# EAGLE library part SI7997DP (library transistor-fet)
Dual P-Channel 30 V (D-S) MOSFET
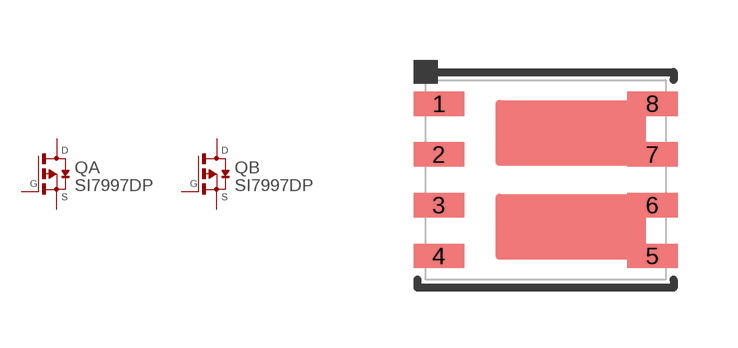
[diagram p22: symbol with the pads of POWERPAK-SO-08D; footprint POWERPAK-SO-08D]

Designator prefix Q; gates A=EMOS-PD B=EMOS-PD

## SI7997DP  [POWERPAK-SO-08D]
1  A:S  pas
2  A:G  pas
3  B:S  pas
4  B:G  pas
5  B:D  pas
6  B:D  pas
7  A:D  pas
8  A:D  pas

## Footprint POWERPAK-SO-08D (pad centres in mm)
PowerPAK-SO-8 DUAL
smd 1.27 x 0.61: 1 -2.67,1.905; 2 -2.67,0.635; 3 -2.67,-0.635; 4 -2.67,-1.905; 5 2.67,-1.905; 6 2.67,-0.635; 7 2.67,0.635; 8 2.67,1.905